# Altium schematic symbol library SG-8xxx.SchLib: 1 symbol
Pins are listed as number, name and electrical type; pins without a type are passive.

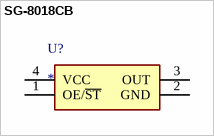
[diagram p0: symbol SG-8018CB]

## SG-8018CB
designator U?
Crystal or Oscillator
footprint SG8018CB250000MTJHPA3
pins: 1 OE/~{ST}, 2 GND, 3 OUT, 4 VCC